# Altium footprint library TE_6-534998-4.PcbLib: 1 footprints
Each footprint in its own frame and in the unit in brackets; x right, y up, seen from the top. Pads: shape width x height; smd on the part's side, far side on the other; paste and mask are expansions set on the pad; w line width, h text height; cw(c..) or ccw(c..) is an arc to the next point about the centre after c.
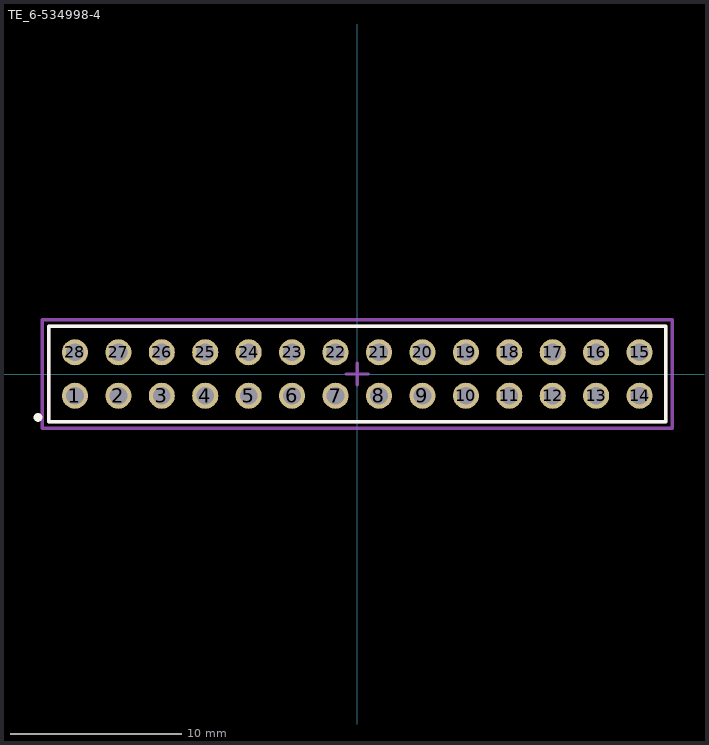
[diagram p0: the footprint, top view; thin cyan lines are the x and y axes]

## TE_6-534998-4 [mil]
pads (28):
  round 60 hole 41: 1(-650,-50) 2(-550,-50) 3(-450,-50) 4(-350,-50) 5(-250,-50) 6(-150,-50) 7(-50,-50) 8(50,-50) 9(150,-50) 10(250,-50) 11(350,-50) 12(450,-50) 13(550,-50) 14(650,-50) 15(650,50) 16(550,50) 17(450,50) 18(350,50) 19(250,50) 20(150,50) 21(50,50) 22(-50,50) 23(-150,50) 24(-250,50) 25(-350,50) 26(-450,50) 27(-550,50) 28(-650,50)
Top Overlay:
  circle w10: c-735,-100 r5
  lines w7.87: -710,-110 -710,110 710,110 710,-110 -710,-110
Mechanical 15:
  lines w7.87: -25,0 25,0 ; 0,-25 0,25 ; -725,-125 725,-125 725,125 -725,125 -725,-125
Mechanical 17:
  lines w7.87: -710,-110 710,-110 710,110 -710,110 -710,-110
  text ".Designator" at -675,-75 h60
Mechanical 19:
  lines w7.87: -710,-110 710,-110 710,110 -710,110 -710,-110
  text ".Comment" at -675,-80 h60
3D body: height 265, standoff -125, extent -699.99,-98.99 700.01,99